# Altium integrated library CD4001BE.IntLib: 1 symbol
Pins are listed as number, name and electrical type; pins without a type are passive.

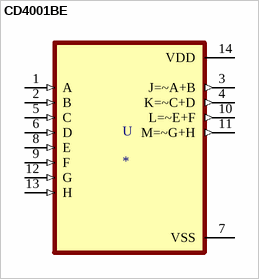
[diagram p0: symbol CD4001BE]

## CD4001BE
designator U
CMOS Quad 2-Input NOR Gate 14-PDIP -55 to 125; MP: CD4001BE; MF: Texas Instruments; Value: *; Texas_Instruments-Purchase-URL: https://snapeda.com/shop?store=Texas+Instruments&id=2748659; Availability: Unavailable; Price: None; Package: PDIP-14 Texas Instruments; DigiKey-Purchase-URL: https://snapeda.com/shop?store=DigiKey&id=2748659; SnapEDA_Link: https://www.snapeda.com/parts/CD4001BE/Texas%20Instruments/view-part/2748659/?ref=snap; Mouser-Purchase-URL: https://snapeda.com/shop?store=Mouser&id=2748659
footprint DIP794W45P254L1969H508Q14
pins: 1 A (in), 2 B (in), 3 J=~A+B (out), 4 K=~C+D (out), 5 C (in), 6 D (in), 7 VSS (power), 8 E (in), 9 F (in), 10 L=~E+F (out), 11 M=~G+H (out), 12 G (in), 13 H (in), 14 VDD (power)